# Altium footprint library others.PcbLib: 82 footprints (part 5 of 6)
Each footprint in its own frame and in the unit in brackets; x right, y up, seen from the top. Pads: shape width x height; smd on the part's side, far side on the other; paste and mask are expansions set on the pad; w line width, h text height; cw(c..) or ccw(c..) is an arc to the next point about the centre after c.
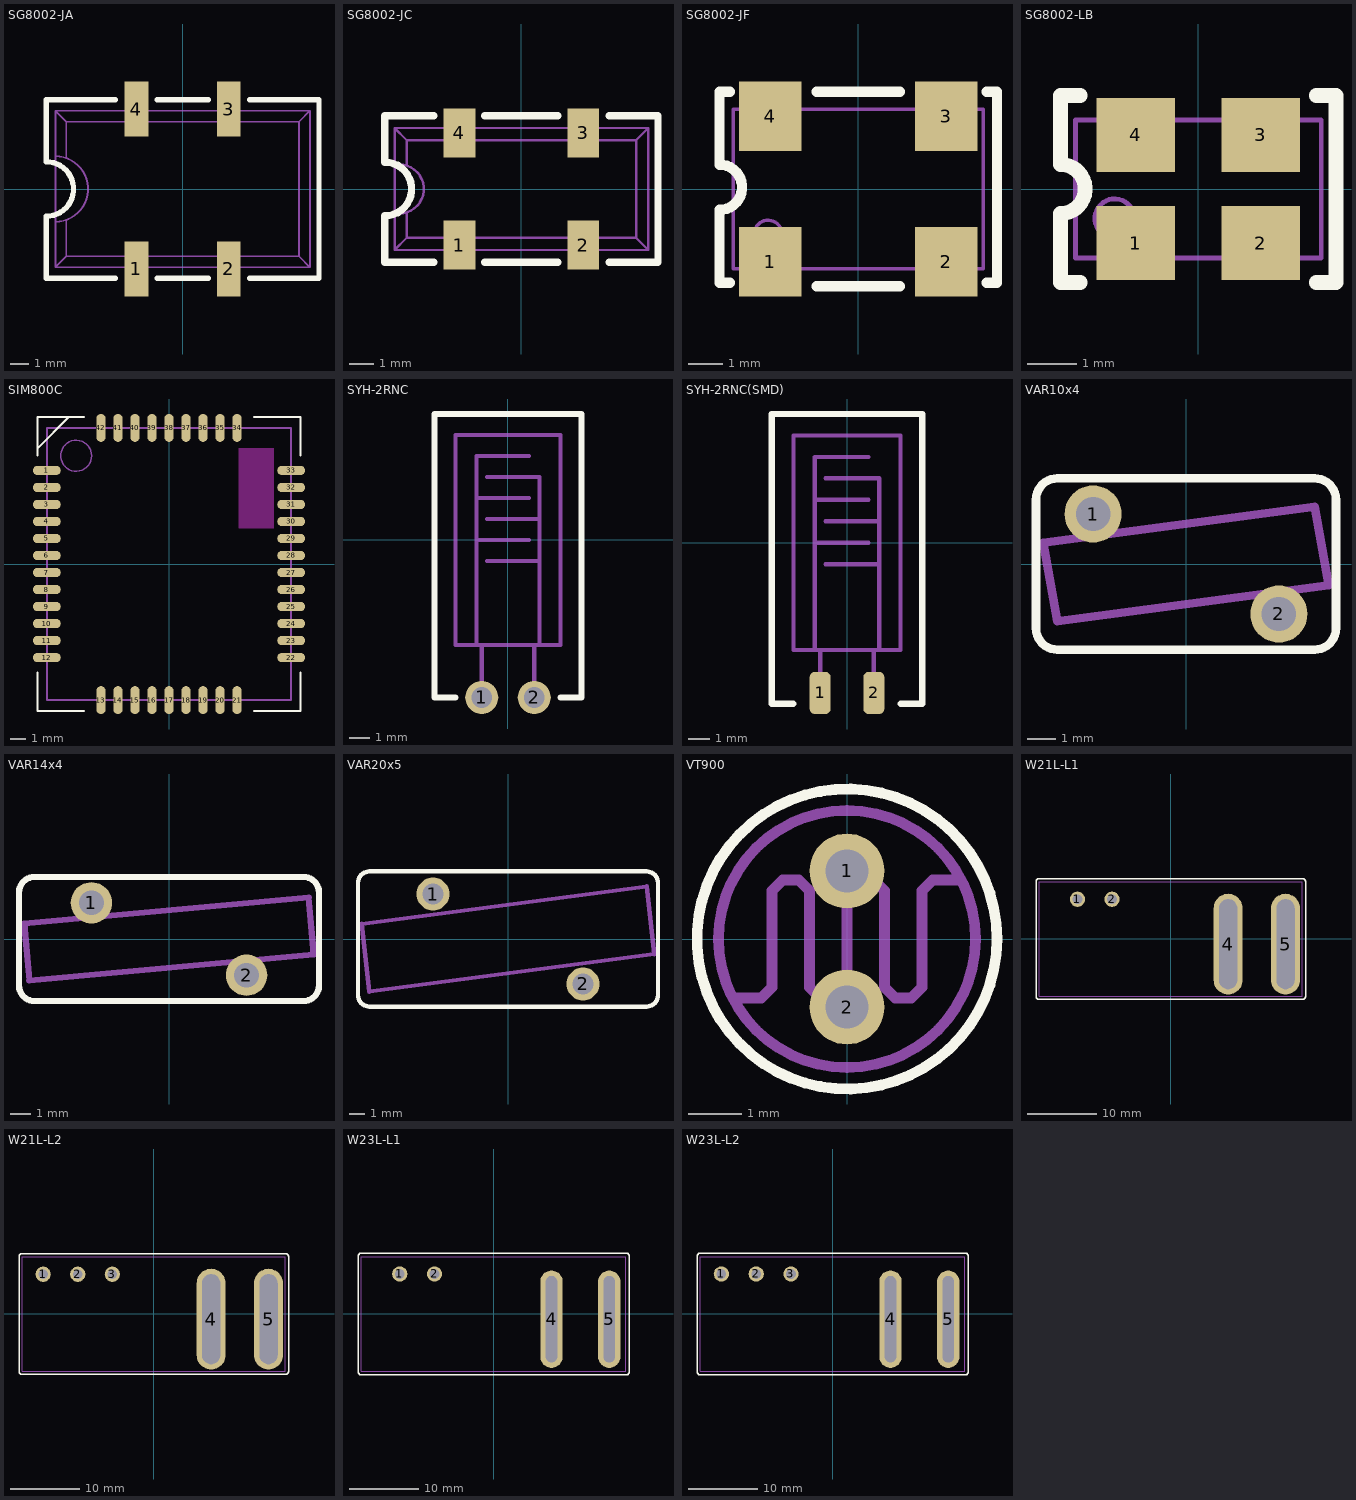
[diagram p4: the footprints below, top view; thin cyan lines are the x and y axes]

## SG8002-JA [mm]
pads (4):
  rect 1.3x3 smd: 1(-2.54,-4.4) 2(2.54,-4.4) 3(2.54,4.4) 4(-2.54,4.4)
Top Overlay:
  lines w0.3: -3.7,-4.9 -7.5,-4.9 -7.5,-1.5 ccw(c-7.5,0) -7.5,1.5 -7.5,4.9 -3.7,4.9 ; -1.4,-4.9 1.4,-4.9 ; -1.4,4.9 1.4,4.9 ; 3.7,-4.9 7.5,-4.9 7.5,4.9 3.7,4.9
Mechanical 1:
  lines w0.1: -7,-1.8 ccw(c-7,0) -7,1.8 ; -6.4,-1.7 -6.4,-3.7 ; -6.4,1.7 -6.4,3.7 ; -3,-4.3 -3,-5 -2.1,-5 -2.1,-4.3 ; -3,4.3 -3,5 -2.1,5 -2.1,4.3 ; 2.1,-4.3 2.1,-5 3,-5 3,-4.3 ; 2.1,4.3 2.1,5 3,5 3,4.3 ; -7,-4.3 7,-4.3 ; -7,-4.3 -7,4.3 ; -7,-4.3 -6.4,-3.7 ; -7,4.3 7,4.3 ; -7,4.3 -6.4,3.7 ; -6.4,-3.7 6.4,-3.7 ; -6.4,3.7 6.4,3.7 ; 6.4,-3.7 6.4,3.7 ; 6.4,-3.7 7,-4.3 ; 6.4,3.7 7,4.3 ; 7,-4.3 7,4.3

## SG8002-JC [mm]
pads (4):
  rect 1.3x2 smd: 1(-2.54,-2.3) 2(2.54,-2.3) 3(2.54,2.3) 4(-2.54,2.3)
Top Overlay:
  lines w0.3: -3.6,-3 -5.6,-3 -5.6,-1.1 ccw(c-5.6,0) -5.6,1.1 -5.6,3 -3.6,3 ; -1.5,-3 1.5,-3 ; -1.5,3 1.5,3 ; 3.6,-3 5.6,-3 5.6,3 3.6,3
Mechanical 1:
  lines w0.1: -5.179,-0.984 ccw(c-5,0) -5.179,0.984 ; -4.7,-1 -4.7,-2 ; -4.7,1 -4.7,2 ; -4.7,1.9 -4.7,2 ; -2.8,-2.5 -2.8,-2.9 -2.2,-2.9 -2.2,-2.5 ; -2.8,2.5 -2.8,2.9 -2.2,2.9 -2.2,2.5 ; 2.2,-2.5 2.2,-2.9 2.8,-2.9 2.8,-2.5 ; 2.2,2.5 2.2,2.9 2.8,2.9 2.8,2.5 ; -5.2,-2.5 -4.7,-2 ; -5.2,-2.5 -5.2,2.5 ; -5.2,-2.5 5.2,-2.5 ; -5.2,2.5 -4.7,2 ; -5.2,2.5 5.2,2.5 ; -4.7,-2 4.7,-2 ; -4.7,2 4.7,2 ; 4.7,-2 5.2,-2.5 ; 4.7,-2 4.7,2 ; 4.7,2 5.2,2.5 ; 5.2,-2.5 5.2,2.5

## SG8002-JF [mm]
pads (4):
  rect 1.8x2 smd: 1(-2.54,-2.1) 2(2.54,-2.1) 3(2.54,2.1) 4(-2.54,2.1)
Top Overlay:
  lines w0.3: -3.7,-2.7 -4,-2.7 -4,-0.6 ccw(c-4,0.05) -4,0.7 -4,2.8 -3.7,2.8 ; -1.2,-2.8 1.2,-2.8 ; -1.2,2.8 1.2,2.8 ; 3.7,-2.7 4,-2.7 4,2.8 3.7,2.8
Mechanical 1:
  circle w0.1: c-2.6,-1.3 r0.4
  lines w0.1: -2.8,-2.3 -2.8,-2.7 -2.3,-2.7 -2.3,-2.3 ; -2.8,2.3 -2.8,2.7 -2.3,2.7 -2.3,2.3 ; 2.3,-2.3 2.3,-2.7 2.8,-2.7 2.8,-2.3 ; 2.3,2.3 2.3,2.7 2.8,2.7 2.8,2.3 ; -3.6,-2.3 -3.6,2.3 3.6,2.3 3.6,-2.3 -3.6,-2.3

## SG8002-LB [mm]
pads (4):
  rect 1.6x1.5 smd: 1(-1.27,-1.1) 2(1.27,-1.1) 3(1.27,1.1) 4(-1.27,1.1)
Top Overlay:
  lines w0.3: -2.4,-1.9 -2.8,-1.9 -2.8,-0.5 ccw(c-2.8,0) -2.8,0.5 -2.8,1.9 -2.4,1.9 ; 2.4,-1.9 2.8,-1.9 2.8,1.9 2.4,1.9
Mechanical 1:
  circle w0.1: c-1.7,-0.6 r0.4
  lines w0.1: -1.8,-1.4 -1.8,-1.8 -0.8,-1.8 -0.8,-1.4 ; -1.8,1.4 -1.8,1.8 -0.8,1.8 -0.8,1.4 ; 0.8,-1.4 0.8,-1.8 1.8,-1.8 1.8,-1.4 ; 0.8,1.4 0.8,1.8 1.8,1.8 1.8,1.4 ; -2.5,-1.4 -2.5,1.4 2.5,1.4 2.5,-1.4 -2.5,-1.4

## SIM800C [mm] "GSM module"
height 2.5
pads (42):
  oval 1.8x0.6 smd: 1(-7.9,6.05) 2(-7.9,4.95) 3(-7.9,3.85) 4(-7.9,2.75) 5(-7.9,1.65) 6(-7.9,0.55) 7(-7.9,-0.55) 8(-7.9,-1.65) 9(-7.9,-2.75) 10(-7.9,-3.85) 11(-7.9,-4.95) 12(-7.9,-6.05) 22(7.9,-6.05) 23(7.9,-4.95) 24(7.9,-3.85) 25(7.9,-2.75) 26(7.9,-1.65) 27(7.9,-0.55) 28(7.9,0.55) 29(7.9,1.65) 30(7.9,2.75) 31(7.9,3.85) 32(7.9,4.95) 33(7.9,6.05)
  oval 0.6x1.8 smd: 13(-4.4,-8.8) 14(-3.3,-8.8) 15(-2.2,-8.8) 16(-1.1,-8.8) 17(0,-8.8) 18(1.1,-8.8) 19(2.2,-8.8) 20(3.3,-8.8) 21(4.4,-8.8) 34(4.4,8.8) 35(3.3,8.8) 36(2.2,8.8) 37(1.1,8.8) 38(0,8.8) 39(-1.1,8.8) 40(-2.2,8.8) 41(-3.3,8.8) 42(-4.4,8.8)
Top Layer keep-out:
  rectangle: 4.5,2.3 6.8,7.5
Top Overlay:
  lines w0.127: -8.5,-7 -8.5,-9.5 -5.5,-9.5 ; -8.5,7 -8.5,9.5 -5.5,9.5 ; -8.5,7.5 -6.5,9.5 ; 5.5,-9.5 8.5,-9.5 8.5,-7 ; 5.5,9.5 8.5,9.5 8.5,7
Mechanical 5:
  circle w0.1: c-6,7 r1
  lines w0.127: -7.9,-8.8 7.9,-8.8 7.9,8.8 -7.9,8.8 -7.9,-8.8
  text ".Designator" at -1,-0.5 h0.51
Mechanical 6:
  circle w0.1: c-6,7 r1
  lines w0.127: -7.9,-8.8 -7.9,8.8 7.9,8.8 7.9,-8.8 -7.9,-8.8
  text ".Comment" at -1,0 h0.51
3D body: height 0.8, standoff 0.1, extent -7.9,-8.8 7.9,8.8
3D body: height 2.5, standoff 0.5, extent -7,-8 7,8

## SYH-2RNC [mm]
height 2
pads (2):
  round 1.6 hole 1: 1(-1.27,-7.62) 2(1.27,-7.62)
Top Overlay:
  lines w0.3: -2.54,-7.62 -3.556,-7.62 -3.556,6.096 3.556,6.096 3.556,-7.62 2.54,-7.62
Mechanical 1:
  lines w0.2: -1.524,-5.08 -1.524,4.064 1.016,4.064 ; -1.524,0 1.016,0 ; -1.524,2.032 1.016,2.032 ; -1.27,-7.62 -1.27,-5.08 ; -1.016,-1.016 1.524,-1.016 ; -1.016,1.016 1.524,1.016 ; -1.016,3.048 -0.508,3.048 1.524,3.048 1.524,-5.08 ; 1.27,-7.62 1.27,-5.08 ; -2.54,-5.08 2.54,-5.08 2.54,5.08 -2.54,5.08 -2.54,-5.08
3D body: height 1.4, standoff 0.7, extent -2.54,-5.08 2.54,5.08

## SYH-2RNC(SMD) [mm]
height 2
pads (2):
  rrect50% 1x2 smd: 1(-1.27,-7.112) 2(1.27,-7.112)
Top Overlay:
  lines w0.3: -2.54,-7.62 -3.556,-7.62 -3.556,6.096 3.556,6.096 3.556,-7.62 2.54,-7.62
Mechanical 1:
  lines w0.2: -1.524,-5.08 -1.524,4.064 1.016,4.064 ; -1.524,0 1.016,0 ; -1.524,2.032 1.016,2.032 ; -1.27,-7.62 -1.27,-5.08 ; -1.016,-1.016 1.524,-1.016 ; -1.016,1.016 1.524,1.016 ; -1.016,3.048 -0.508,3.048 1.524,3.048 1.524,-5.08 ; 1.27,-7.62 1.27,-5.08 ; -2.54,-5.08 2.54,-5.08 2.54,5.08 -2.54,5.08 -2.54,-5.08
3D body: height 1.4, standoff 0.7, extent -2.54,-5.08 2.54,5.08

## TRASH [mm]
height 100

## VAR10x4 [mm]
height 13
pads (2):
  round 2 hole 1.2: 1(-3.25,1.75) 2(3.25,-1.75)
Top Overlay:
  lines w0.3: -5.25,-2.25 ccw(c-4.5,-2.25) -4.5,-3 4.5,-3 ccw(c4.5,-2.25) 5.25,-2.25 5.25,2.25 ccw(c4.5,2.25) 4.5,3 -4.5,3 ccw(c-4.5,2.25) -5.25,2.25 -5.25,-2.25
Mechanical 1:
  lines w0.3: -5,0.75 -4.5,-2 5,-0.75 4.5,2 -5,0.75
3D body: height 11.99, standoff 2, extent -5.173,-2.807 5.367,2.868

## VAR14x4 [mm]
height 20
pads (2):
  round 2 hole 1.2: 1(-3.75,1.75) 2(3.75,-1.75)
Top Overlay:
  lines w0.3: -7.25,-2.25 ccw(c-6.5,-2.25) -6.5,-3 6.5,-3 ccw(c6.5,-2.25) 7.25,-2.25 7.25,2.25 ccw(c6.5,2.25) 6.5,3 -6.5,3 ccw(c-6.5,2.25) -7.25,2.25 -7.25,-2.25
Mechanical 1:
  lines w0.3: -7,0.75 6.75,2 7,-0.75 -6.75,-2 -7,0.75
3D body: height 17.99, standoff 4, extent -7.142,-3.154 7.336,3.215

## VAR20x5 [mm]
height 25
pads (2):
  round 2.2 hole 1.4: 1(-5,3) 2(5,-3)
Top Overlay:
  lines w0.3: -10,-3.75 ccw(c-9.25,-3.75) -9.25,-4.5 9.25,-4.5 ccw(c9.25,-3.75) 10,-3.75 10,3.75 ccw(c9.25,3.75) 9.25,4.5 -9.25,4.5 ccw(c-9.25,3.75) -10,3.75 -10,-3.75
Mechanical 1:
  lines w0.3: -9.75,1 -9.25,-3.5 9.75,-1 9.25,3.5 -9.75,1
3D body: height 22.99, standoff 3, extent -10.345,-4.16 10.214,4.236

## VT900 [mm]
height 1
pads (2):
  round 1.4 hole 0.8: 1(0,1.27) 2(0,-1.27)
Top Overlay:
  circle w0.2: c0,0 r2.8
Mechanical 1:
  circle w0.2: c0,0 r2.4
  lines w0.2: -2.1,-1.1 -1.6,-1.1 -1.4,-0.9 -1.4,0.9 -1.2,1.1 -0.9,1.1 -0.7,0.9 -0.7,-0.9 -0.5,-1.1 -0.2,-1.1 0,-0.9 0,0 0,0.9 0.2,1.1 0.5,1.1 0.7,0.9 0.7,-0.9 0.9,-1.1 1.2,-1.1 1.4,-0.9 1.4,0.9 1.6,1.1 2.1,1.1
3D body: height 0.9, standoff 0.7, extent -2.2,-1.51 2.2,1.51
3D body: height 0.8, standoff 0, extent -2.397,-2.399 2.4,2.399
3D body: height 1, standoff -2.8, extent -0.298,0.97 0.3,1.57
3D body: height 1, standoff -2.8, extent -0.298,-1.57 0.3,-0.97

## W21L-L1 [mm] "Latching relay"
height 30
pads (4):
  round 2.2 hole 1.4: 1(-13.5,5.75) 2(-8.5,5.75)
  oval 4.2x14.6 hole 2.6 slot 13 at 90 deg: 4(8.3,-0.75) 5(16.6,-0.75)
Top Overlay:
  lines w0.2: -19.5,-8.25 ccw(c-19,-8.25) -19,-8.75 19,-8.75 ccw(c19,-8.25) 19.5,-8.25 19.5,8.25 ccw(c19,8.25) 19,8.75 -19,8.75 ccw(c-19,8.25) -19.5,8.25 -19.5,-8.25
Mechanical 1:
  lines w0.1: -19,-8.25 -19,8.25 19,8.25 19,-8.25 -19,-8.25
3D body: height 30.5, standoff 0.5, extent -19.009,-8.259 19.009,8.259
3D body: height 1, standoff -3.6, extent -13.8,5.45 -13.2,6.05
3D body: height 1, standoff -3.6, extent -8.8,5.45 -8.2,6.05
3D body: height 1, standoff -3.6, extent 7.8,-6.5 8.8,5
3D body: height 1, standoff -3.6, extent 16.1,-6.5 17.1,5

## W21L-L2 [mm] "Latching relay"
height 30
pads (5):
  round 2.2 hole 1.4: 1(-16,5.75) 2(-11,5.75) 3(-6,5.75)
  oval 4.2x14.6 hole 2.6 slot 13 at 90 deg: 4(8.3,-0.75) 5(16.6,-0.75)
Top Overlay:
  lines w0.2: -19.5,-8.25 ccw(c-19,-8.25) -19,-8.75 19,-8.75 ccw(c19,-8.25) 19.5,-8.25 19.5,8.25 ccw(c19,8.25) 19,8.75 -19,8.75 ccw(c-19,8.25) -19.5,8.25 -19.5,-8.25
Mechanical 1:
  lines w0.1: -19,-8.25 -19,8.25 19,8.25 19,-8.25 -19,-8.25
3D body: height 1, standoff -3.6, extent -6.3,5.45 -5.7,6.05
3D body: height 30.5, standoff 0.5, extent -19.009,-8.259 19.009,8.259
3D body: height 1, standoff -3.6, extent -16.3,5.45 -15.7,6.05
3D body: height 1, standoff -3.6, extent -11.3,5.45 -10.7,6.05
3D body: height 1, standoff -3.6, extent 7.8,-6.5 8.8,5
3D body: height 1, standoff -3.6, extent 16.1,-6.5 17.1,5

## W23L-L1 [mm] "Latching relay"
height 30
pads (4):
  round 2.2 hole 1.4: 1(-13.5,5.75) 2(-8.5,5.75)
  oval 3.2x14 hole 1.6 slot 12.4 at 90 deg: 4(8.3,-0.75) 5(16.6,-0.75)
Top Overlay:
  lines w0.2: -19.5,-8.25 ccw(c-19,-8.25) -19,-8.75 19,-8.75 ccw(c19,-8.25) 19.5,-8.25 19.5,8.25 ccw(c19,8.25) 19,8.75 -19,8.75 ccw(c-19,8.25) -19.5,8.25 -19.5,-8.25
Mechanical 1:
  lines w0.1: -19,-8.25 -19,8.25 19,8.25 19,-8.25 -19,-8.25
3D body: height 30.5, standoff 0.5, extent -19.009,-8.259 19.009,8.259
3D body: height 1, standoff -3.6, extent -13.8,5.45 -13.2,6.05
3D body: height 1, standoff -3.6, extent -8.8,5.45 -8.2,6.05
3D body: height 1, standoff -3.6, extent 7.8,-6.5 8.8,5
3D body: height 1, standoff -3.6, extent 16.1,-6.5 17.1,5

## W23L-L2 [mm] "Latching relay"
height 30
pads (5):
  round 2.2 hole 1.4: 1(-16,5.75) 2(-11,5.75) 3(-6,5.75)
  oval 3.2x14 hole 1.6 slot 12.4 at 90 deg: 4(8.3,-0.75) 5(16.6,-0.75)
Top Overlay:
  lines w0.2: -19.5,-8.25 ccw(c-19,-8.25) -19,-8.75 19,-8.75 ccw(c19,-8.25) 19.5,-8.25 19.5,8.25 ccw(c19,8.25) 19,8.75 -19,8.75 ccw(c-19,8.25) -19.5,8.25 -19.5,-8.25
Mechanical 1:
  lines w0.1: -19,-8.25 -19,8.25 19,8.25 19,-8.25 -19,-8.25
3D body: height 1, standoff -3.6, extent -6.3,5.45 -5.7,6.05
3D body: height 30.5, standoff 0.5, extent -19.009,-8.259 19.009,8.259
3D body: height 1, standoff -3.6, extent -16.3,5.45 -15.7,6.05
3D body: height 1, standoff -3.6, extent -11.3,5.45 -10.7,6.05
3D body: height 1, standoff -3.6, extent 7.8,-6.5 8.8,5
3D body: height 1, standoff -3.6, extent 16.1,-6.5 17.1,5